# EAGLE library part SN74AHCT126D (library SN74AHCT126D)
Check availability <https://pricing.snapeda.com/parts/SN74AHCT126D/Texas%20Instruments/view-part?ref=eda>
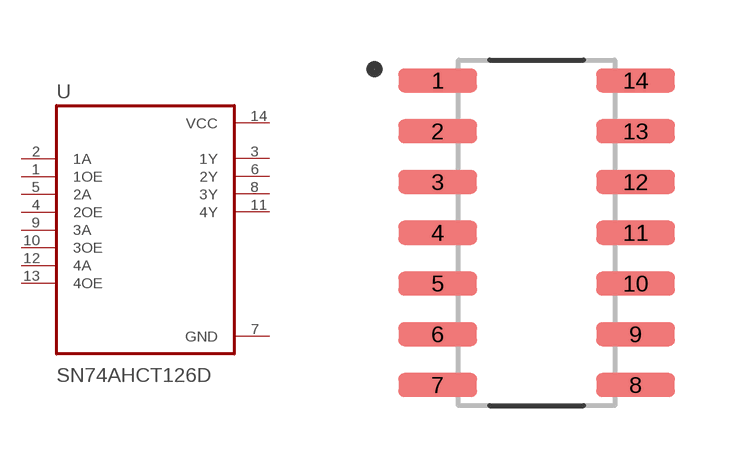
[diagram p0: symbol with the pads of SOIC127P600X175-14N; footprint SOIC127P600X175-14N]

Designator prefix U

## SN74AHCT126D (Availability: In Stock; Description: 4-ch, 4.5-V to 5.5-V buffers with TTL-compatible CMOS inputs and 3-state outputs; MF: Texas Instruments; MP: SN74AHCT126D; Package: SOIC-14 Texas Instruments; Price: None; Purchase-URL: https://pricing.snapeda.com/search/part/SN74AHCT126D/?ref=eda)  [SOIC127P600X175-14N]
1  1OE  in
2  1A  in
3  1Y  out
4  2OE  in
5  2A  in
6  2Y  out
7  GND  pwr
8  3Y  out
9  3A  in
10  3OE  in
11  4Y  out
12  4A  in
13  4OE  in
14  VCC  pwr

## Footprint SOIC127P600X175-14N (pad centres in mm)
smd 1.97 x 0.6: 1 -2.475,3.81; 2 -2.475,2.54; 3 -2.475,1.27; 4 -2.475,0; 5 -2.475,-1.27; 6 -2.475,-2.54; 7 -2.475,-3.81; 8 2.475,-3.81; 9 2.475,-2.54; 10 2.475,-1.27; 11 2.475,0; 12 2.475,1.27; 13 2.475,2.54; 14 2.475,3.81